# Altium integrated library Silicon Labs Clocks and Oscillators.IntLib: 678 symbols (part 2 of 45)
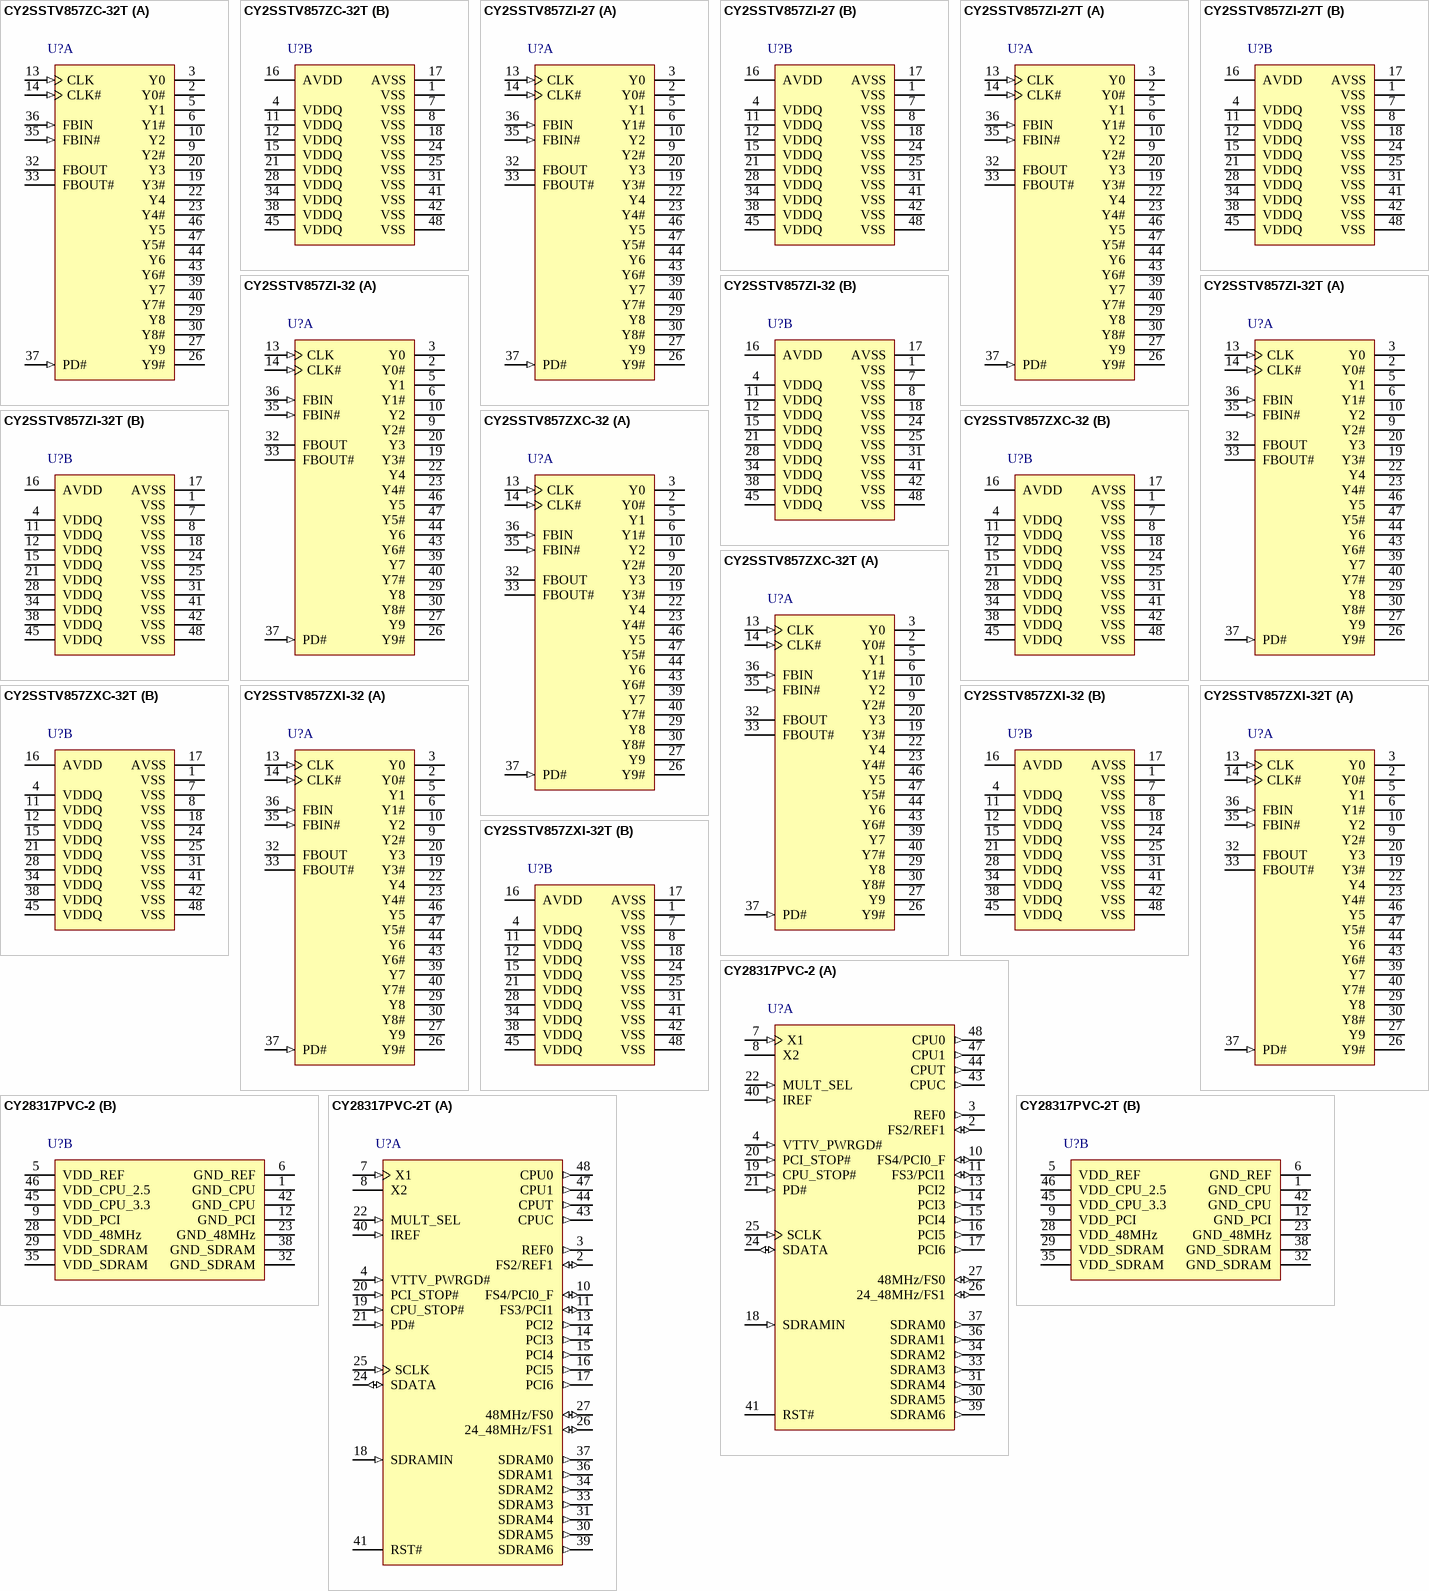
[diagram p45: symbols CY2SSTV857ZC-32T to CY28317PVC-2T]

## CY2SSTV857ZI-27
designator U?
Differential Clock Buffer / Driver DDR333 / PC2700-Compliant, 2.5 V, 20 to 200 MHz Output, -40 to 85 degC, 48-pin SOP; Manufacturer: Silicon Labs; PartNumber: CY2SSTV857ZI-27; Output Format: SSTL2; Reference Inputs: 2; VDD: 2.5 V; Sub-Family: Clock Generators; DatasheetVersion: Rev. *F; PackageReference: TSSOP-48; PackageDescription: 48-Pin Thin Shrink Small-Outline Package, Body 12.5 x 6.1 mm, Pitch 0.5 mm; Supplier 1: Digi-Key; Supplier Part Number 1: CY2SSTV857ZI-27-ND; Supplier 2: Mouser; Supplier Part Number 2: 634-CY2SSTV857ZI-27; Output Frequency (MHz): 20 to 200; Mounting Technology: Surface Mount; Code_JEDEC: MO-153; ComponentLink1Description: Manufacturer URL; ComponentLink1URL: http://www.silabs.com/; ComponentLink2Description: Datasheet; ComponentLink2URL: http://www.silabs.com/Support%20Documents/TechnicalDocs/CY2SSTV857-27.pdf; ComponentLink3Description: Package Specification; ComponentLink3URL: http://www.silabs.com/Support%20Documents/TechnicalDocs/C9530.pdf
footprint SLAB-TSSOP-48_N (SOP, 48-Leads, Body 12.6x6.2mm, Pitch 0.5mm, IPC Medium Density)
footprint SLAB-TSSOP-48_L (SOP, 48-Leads, Body 12.6x6.2mm, Pitch 0.5mm, IPC High Density)
footprint SLAB-TSSOP-48_M (SOP, 48-Leads, Body 12.6x6.2mm, Pitch 0.5mm, IPC Low Density)
part A pins: 2 Y0# (hiz) "Clock Outputs", 3 Y0 (hiz) "Clock Outputs", 5 Y1 (hiz) "Clock Outputs", 6 Y1# (hiz) "Clock Outputs", 9 Y2# (hiz) "Clock Outputs", 10 Y2 (hiz) "Clock Outputs", 13 CLK (in) "Differential Clock Input.", 14 CLK# (in) "Differential Clock Input.", 19 Y3# (hiz) "Clock Outputs", 20 Y3 (hiz) "Clock Outputs", 22 Y4 (hiz) "Clock Outputs", 23 Y4# (hiz) "Clock Outputs", 26 Y9# (hiz) "Clock Outputs", 27 Y9 (hiz) "Clock Outputs", 29 Y8 (hiz) "Clock Outputs", 30 Y8# (hiz) "Clock Outputs", 32 FBOUT (hiz) "Feedback Clock Output", 33 FBOUT# (hiz) "Feedback Clock Output", 35 FBIN# (in) "Feedback Clock Input", 36 FBIN (in) "Feedback Clock Input", 37 PD# (in) "Power Down Input", 39 Y7 (hiz) "Clock Outputs", 40 Y7# (hiz) "Clock Outputs", 43 Y6# (hiz) "Clock Outputs", 44 Y6 (hiz) "Clock Outputs", 46 Y5 (hiz) "Clock Outputs", 47 Y5# (hiz) "Clock Outputs"
part B pins: 1 VSS (power) "Common Ground.", 4 VDDQ (power), 7 VSS (power) "Common Ground.", 8 VSS (power) "Common Ground.", 11 VDDQ (power), 12 VDDQ (power), 15 VDDQ (power), 16 AVDD (power), 17 AVSS (power) "Analog Ground.", 18 VSS (power) "Common Ground.", 21 VDDQ (power), 24 VSS (power) "Common Ground.", 25 VSS (power) "Common Ground.", 28 VDDQ (power), 31 VSS (power) "Common Ground.", 34 VDDQ (power), 38 VDDQ (power), 41 VSS (power) "Common Ground.", 42 VSS (power) "Common Ground.", 45 VDDQ (power), 48 VSS (power) "Common Ground."

## CY2SSTV857ZI-27T
designator U?
Differential Clock Buffer / Driver DDR333 / PC2700-Compliant, 2.5 V, 20 to 200 MHz Output, -40 to 85 degC, 48-pin SOP, Tape and Reel; Manufacturer: Silicon Labs; PartNumber: CY2SSTV857ZI-27T; Output Format: SSTL2; Phase Jitter (RMS): > 1 ps; Reference Inputs: 2; VDD: 2.5 V; Sub-Family: Clock Generators; DatasheetVersion: Rev. *F; PackageReference: TSSOP-48; PackageDescription: 48-Pin Thin Shrink Small-Outline Package, Body 12.5 x 6.1 mm, Pitch 0.5 mm; Supplier 1: Digi-Key; Supplier Part Number 1: CY2SSTV857ZI-27T-ND; Supplier 2: Mouser; Supplier Part Number 2: 634-CY2SSTV857ZI-27T; Output Frequency (MHz): 20 to 200; Packing: Tape and Reel; Mounting Technology: Surface Mount; Code_JEDEC: MO-153; ComponentLink1Description: Manufacturer URL; ComponentLink1URL: http://www.silabs.com/; ComponentLink2Description: Datasheet; ComponentLink2URL: http://www.silabs.com/Support%20Documents/TechnicalDocs/CY2SSTV857-27.pdf; ComponentLink3Description: Package Specification; ComponentLink3URL: http://www.silabs.com/Support%20Documents/TechnicalDocs/C9530.pdf
footprint SLAB-TSSOP-48_N (SOP, 48-Leads, Body 12.6x6.2mm, Pitch 0.5mm, IPC Medium Density)
footprint SLAB-TSSOP-48_L (SOP, 48-Leads, Body 12.6x6.2mm, Pitch 0.5mm, IPC High Density)
footprint SLAB-TSSOP-48_M (SOP, 48-Leads, Body 12.6x6.2mm, Pitch 0.5mm, IPC Low Density)
part A pins: 2 Y0# (hiz) "Clock Outputs", 3 Y0 (hiz) "Clock Outputs", 5 Y1 (hiz) "Clock Outputs", 6 Y1# (hiz) "Clock Outputs", 9 Y2# (hiz) "Clock Outputs", 10 Y2 (hiz) "Clock Outputs", 13 CLK (in) "Differential Clock Input.", 14 CLK# (in) "Differential Clock Input.", 19 Y3# (hiz) "Clock Outputs", 20 Y3 (hiz) "Clock Outputs", 22 Y4 (hiz) "Clock Outputs", 23 Y4# (hiz) "Clock Outputs", 26 Y9# (hiz) "Clock Outputs", 27 Y9 (hiz) "Clock Outputs", 29 Y8 (hiz) "Clock Outputs", 30 Y8# (hiz) "Clock Outputs", 32 FBOUT (hiz) "Feedback Clock Output", 33 FBOUT# (hiz) "Feedback Clock Output", 35 FBIN# (in) "Feedback Clock Input", 36 FBIN (in) "Feedback Clock Input", 37 PD# (in) "Power Down Input", 39 Y7 (hiz) "Clock Outputs", 40 Y7# (hiz) "Clock Outputs", 43 Y6# (hiz) "Clock Outputs", 44 Y6 (hiz) "Clock Outputs", 46 Y5 (hiz) "Clock Outputs", 47 Y5# (hiz) "Clock Outputs"
part B pins: 1 VSS (power) "Common Ground.", 4 VDDQ (power), 7 VSS (power) "Common Ground.", 8 VSS (power) "Common Ground.", 11 VDDQ (power), 12 VDDQ (power), 15 VDDQ (power), 16 AVDD (power), 17 AVSS (power) "Analog Ground.", 18 VSS (power) "Common Ground.", 21 VDDQ (power), 24 VSS (power) "Common Ground.", 25 VSS (power) "Common Ground.", 28 VDDQ (power), 31 VSS (power) "Common Ground.", 34 VDDQ (power), 38 VDDQ (power), 41 VSS (power) "Common Ground.", 42 VSS (power) "Common Ground.", 45 VDDQ (power), 48 VSS (power) "Common Ground."

## CY2SSTV857ZI-32
designator U?
Differential Clock Buffer / Driver DDR400 / PC3200-Compliant, 2.6 V, 20 to 230 MHz Output, -40 to 85 degC, 48-pin SOP; Manufacturer: Silicon Labs; PartNumber: CY2SSTV857ZI-32; Output Format: SSTL2; Reference Inputs: 2; VDD: 2.6 V; Sub-Family: Clock Generators; DatasheetVersion: Rev. *E; PackageReference: TSSOP-48; PackageDescription: 48-Pin Thin Shrink Small-Outline Package, Body 12.5 x 6.1 mm, Pitch 0.5 mm; Output Frequency (MHz): 20 to 230; Mounting Technology: Surface Mount; Code_JEDEC: MO-153; ComponentLink1Description: Manufacturer URL; ComponentLink1URL: http://www.silabs.com/; ComponentLink2Description: Datasheet; ComponentLink2URL: http://www.silabs.com/Support%20Documents/TechnicalDocs/CY2SSTV857-32.pdf; ComponentLink3Description: Package Specification; ComponentLink3URL: http://www.silabs.com/Support%20Documents/TechnicalDocs/C9530.pdf
footprint SLAB-TSSOP-48_N (SOP, 48-Leads, Body 12.6x6.2mm, Pitch 0.5mm, IPC Medium Density)
footprint SLAB-TSSOP-48_L (SOP, 48-Leads, Body 12.6x6.2mm, Pitch 0.5mm, IPC High Density)
footprint SLAB-TSSOP-48_M (SOP, 48-Leads, Body 12.6x6.2mm, Pitch 0.5mm, IPC Low Density)
part A pins: 2 Y0# (hiz) "Clock Outputs", 3 Y0 (hiz) "Clock Outputs", 5 Y1 (hiz) "Clock Outputs", 6 Y1# (hiz) "Clock Outputs", 9 Y2# (hiz) "Clock Outputs", 10 Y2 (hiz) "Clock Outputs", 13 CLK (in) "Differential Clock Input.", 14 CLK# (in) "Differential Clock Input.", 19 Y3# (hiz) "Clock Outputs", 20 Y3 (hiz) "Clock Outputs", 22 Y4 (hiz) "Clock Outputs", 23 Y4# (hiz) "Clock Outputs", 26 Y9# (hiz) "Clock Outputs", 27 Y9 (hiz) "Clock Outputs", 29 Y8 (hiz) "Clock Outputs", 30 Y8# (hiz) "Clock Outputs", 32 FBOUT (hiz) "Feedback Clock Output", 33 FBOUT# (hiz) "Feedback Clock Output", 35 FBIN# (in) "Feedback Clock Input", 36 FBIN (in) "Feedback Clock Input", 37 PD# (in) "Power Down Input", 39 Y7 (hiz) "Clock Outputs", 40 Y7# (hiz) "Clock Outputs", 43 Y6# (hiz) "Clock Outputs", 44 Y6 (hiz) "Clock Outputs", 46 Y5 (hiz) "Clock Outputs", 47 Y5# (hiz) "Clock Outputs"
part B pins: 1 VSS (power) "Common Ground.", 4 VDDQ (power), 7 VSS (power) "Common Ground.", 8 VSS (power) "Common Ground.", 11 VDDQ (power), 12 VDDQ (power), 15 VDDQ (power), 16 AVDD (power), 17 AVSS (power) "Analog Ground.", 18 VSS (power) "Common Ground.", 21 VDDQ (power), 24 VSS (power) "Common Ground.", 25 VSS (power) "Common Ground.", 28 VDDQ (power), 31 VSS (power) "Common Ground.", 34 VDDQ (power), 38 VDDQ (power), 41 VSS (power) "Common Ground.", 42 VSS (power) "Common Ground.", 45 VDDQ (power), 48 VSS (power) "Common Ground."

## CY2SSTV857ZI-32T
designator U?
Differential Clock Buffer / Driver DDR400 / PC3200-Compliant, 2.6 V, 20 to 230 MHz Output, -40 to 85 degC, 48-pin SOP, Tape and Reel; Manufacturer: Silicon Labs; PartNumber: CY2SSTV857ZI-32T; Output Format: SSTL2; Phase Jitter (RMS): > 1 ps; Reference Inputs: 2; VDD: 2.6 V; Sub-Family: Clock Generators; DatasheetVersion: Rev. *E; PackageReference: TSSOP-48; PackageDescription: 48-Pin Thin Shrink Small-Outline Package, Body 12.5 x 6.1 mm, Pitch 0.5 mm; Output Frequency (MHz): 20 to 230; Packing: Tape and Reel; Mounting Technology: Surface Mount; Code_JEDEC: MO-153; ComponentLink1Description: Manufacturer URL; ComponentLink1URL: http://www.silabs.com/; ComponentLink2Description: Datasheet; ComponentLink2URL: http://www.silabs.com/Support%20Documents/TechnicalDocs/CY2SSTV857-32.pdf; ComponentLink3Description: Package Specification; ComponentLink3URL: http://www.silabs.com/Support%20Documents/TechnicalDocs/C9530.pdf
footprint SLAB-TSSOP-48_N (SOP, 48-Leads, Body 12.6x6.2mm, Pitch 0.5mm, IPC Medium Density)
footprint SLAB-TSSOP-48_L (SOP, 48-Leads, Body 12.6x6.2mm, Pitch 0.5mm, IPC High Density)
footprint SLAB-TSSOP-48_M (SOP, 48-Leads, Body 12.6x6.2mm, Pitch 0.5mm, IPC Low Density)
part A pins: 2 Y0# (hiz) "Clock Outputs", 3 Y0 (hiz) "Clock Outputs", 5 Y1 (hiz) "Clock Outputs", 6 Y1# (hiz) "Clock Outputs", 9 Y2# (hiz) "Clock Outputs", 10 Y2 (hiz) "Clock Outputs", 13 CLK (in) "Differential Clock Input.", 14 CLK# (in) "Differential Clock Input.", 19 Y3# (hiz) "Clock Outputs", 20 Y3 (hiz) "Clock Outputs", 22 Y4 (hiz) "Clock Outputs", 23 Y4# (hiz) "Clock Outputs", 26 Y9# (hiz) "Clock Outputs", 27 Y9 (hiz) "Clock Outputs", 29 Y8 (hiz) "Clock Outputs", 30 Y8# (hiz) "Clock Outputs", 32 FBOUT (hiz) "Feedback Clock Output", 33 FBOUT# (hiz) "Feedback Clock Output", 35 FBIN# (in) "Feedback Clock Input", 36 FBIN (in) "Feedback Clock Input", 37 PD# (in) "Power Down Input", 39 Y7 (hiz) "Clock Outputs", 40 Y7# (hiz) "Clock Outputs", 43 Y6# (hiz) "Clock Outputs", 44 Y6 (hiz) "Clock Outputs", 46 Y5 (hiz) "Clock Outputs", 47 Y5# (hiz) "Clock Outputs"
part B pins: 1 VSS (power) "Common Ground.", 4 VDDQ (power), 7 VSS (power) "Common Ground.", 8 VSS (power) "Common Ground.", 11 VDDQ (power), 12 VDDQ (power), 15 VDDQ (power), 16 AVDD (power), 17 AVSS (power) "Analog Ground.", 18 VSS (power) "Common Ground.", 21 VDDQ (power), 24 VSS (power) "Common Ground.", 25 VSS (power) "Common Ground.", 28 VDDQ (power), 31 VSS (power) "Common Ground.", 34 VDDQ (power), 38 VDDQ (power), 41 VSS (power) "Common Ground.", 42 VSS (power) "Common Ground.", 45 VDDQ (power), 48 VSS (power) "Common Ground."

## CY2SSTV857ZXC-32
designator U?
Differential Clock Buffer / Driver DDR400 / PC3200-Compliant, 2.6 V, 20 to 230 MHz Output, 0 to 70 degC, 48-pin SOP; Manufacturer: Silicon Labs; PartNumber: CY2SSTV857ZXC-32; Output Format: SSTL2; Reference Inputs: 2; VDD: 2.6 V; Sub-Family: Clock Generators; DatasheetVersion: Rev. *E; PackageReference: TSSOP-48; PackageDescription: 48-Pin Thin Shrink Small-Outline Package, Body 12.5 x 6.1 mm, Pitch 0.5 mm; Supplier 1: Digi-Key; Supplier Part Number 1: CY2SSTV857ZXC-32-ND; Supplier 2: Mouser; Supplier Part Number 2: 634-CY2SSTV857ZXC-32; Output Frequency (MHz): 20 to 230; Mounting Technology: Surface Mount; Code_JEDEC: MO-153; ComponentLink1Description: Manufacturer URL; ComponentLink1URL: http://www.silabs.com/; ComponentLink2Description: Datasheet; ComponentLink2URL: http://www.silabs.com/Support%20Documents/TechnicalDocs/CY2SSTV857-32.pdf; ComponentLink3Description: Package Specification; ComponentLink3URL: http://www.silabs.com/Support%20Documents/TechnicalDocs/C9530.pdf
footprint SLAB-TSSOP-48_N (SOP, 48-Leads, Body 12.6x6.2mm, Pitch 0.5mm, IPC Medium Density)
footprint SLAB-TSSOP-48_L (SOP, 48-Leads, Body 12.6x6.2mm, Pitch 0.5mm, IPC High Density)
footprint SLAB-TSSOP-48_M (SOP, 48-Leads, Body 12.6x6.2mm, Pitch 0.5mm, IPC Low Density)
part A pins: 2 Y0# (hiz) "Clock Outputs", 3 Y0 (hiz) "Clock Outputs", 5 Y1 (hiz) "Clock Outputs", 6 Y1# (hiz) "Clock Outputs", 9 Y2# (hiz) "Clock Outputs", 10 Y2 (hiz) "Clock Outputs", 13 CLK (in) "Differential Clock Input.", 14 CLK# (in) "Differential Clock Input.", 19 Y3# (hiz) "Clock Outputs", 20 Y3 (hiz) "Clock Outputs", 22 Y4 (hiz) "Clock Outputs", 23 Y4# (hiz) "Clock Outputs", 26 Y9# (hiz) "Clock Outputs", 27 Y9 (hiz) "Clock Outputs", 29 Y8 (hiz) "Clock Outputs", 30 Y8# (hiz) "Clock Outputs", 32 FBOUT (hiz) "Feedback Clock Output", 33 FBOUT# (hiz) "Feedback Clock Output", 35 FBIN# (in) "Feedback Clock Input", 36 FBIN (in) "Feedback Clock Input", 37 PD# (in) "Power Down Input", 39 Y7 (hiz) "Clock Outputs", 40 Y7# (hiz) "Clock Outputs", 43 Y6# (hiz) "Clock Outputs", 44 Y6 (hiz) "Clock Outputs", 46 Y5 (hiz) "Clock Outputs", 47 Y5# (hiz) "Clock Outputs"
part B pins: 1 VSS (power) "Common Ground.", 4 VDDQ (power), 7 VSS (power) "Common Ground.", 8 VSS (power) "Common Ground.", 11 VDDQ (power), 12 VDDQ (power), 15 VDDQ (power), 16 AVDD (power), 17 AVSS (power) "Analog Ground.", 18 VSS (power) "Common Ground.", 21 VDDQ (power), 24 VSS (power) "Common Ground.", 25 VSS (power) "Common Ground.", 28 VDDQ (power), 31 VSS (power) "Common Ground.", 34 VDDQ (power), 38 VDDQ (power), 41 VSS (power) "Common Ground.", 42 VSS (power) "Common Ground.", 45 VDDQ (power), 48 VSS (power) "Common Ground."

## CY2SSTV857ZXC-32T
designator U?
Differential Clock Buffer / Driver DDR400 / PC3200-Compliant, 2.6 V, 20 to 230 MHz Output, 0 to 70 degC, 48-pin SOP, Tape and Reel; Manufacturer: Silicon Labs; PartNumber: CY2SSTV857ZXC-32T; Output Format: SSTL2; Phase Jitter (RMS): > 1 ps; Reference Inputs: 2; VDD: 2.6 V; Sub-Family: Clock Generators; DatasheetVersion: Rev. *E; PackageReference: TSSOP-48; PackageDescription: 48-Pin Thin Shrink Small-Outline Package, Body 12.5 x 6.1 mm, Pitch 0.5 mm; Supplier 1: Digi-Key; Supplier Part Number 1: CY2SSTV857ZXC-32T-ND; Supplier 2: Mouser; Supplier Part Number 2: 634-CY2SSTV857ZXC32T; Output Frequency (MHz): 20 to 230; Packing: Tape and Reel; Mounting Technology: Surface Mount; Code_JEDEC: MO-153; ComponentLink1Description: Manufacturer URL; ComponentLink1URL: http://www.silabs.com/; ComponentLink2Description: Datasheet; ComponentLink2URL: http://www.silabs.com/Support%20Documents/TechnicalDocs/CY2SSTV857-32.pdf; ComponentLink3Description: Package Specification; ComponentLink3URL: http://www.silabs.com/Support%20Documents/TechnicalDocs/C9530.pdf
footprint SLAB-TSSOP-48_N (SOP, 48-Leads, Body 12.6x6.2mm, Pitch 0.5mm, IPC Medium Density)
footprint SLAB-TSSOP-48_L (SOP, 48-Leads, Body 12.6x6.2mm, Pitch 0.5mm, IPC High Density)
footprint SLAB-TSSOP-48_M (SOP, 48-Leads, Body 12.6x6.2mm, Pitch 0.5mm, IPC Low Density)
part A pins: 2 Y0# (hiz) "Clock Outputs", 3 Y0 (hiz) "Clock Outputs", 5 Y1 (hiz) "Clock Outputs", 6 Y1# (hiz) "Clock Outputs", 9 Y2# (hiz) "Clock Outputs", 10 Y2 (hiz) "Clock Outputs", 13 CLK (in) "Differential Clock Input.", 14 CLK# (in) "Differential Clock Input.", 19 Y3# (hiz) "Clock Outputs", 20 Y3 (hiz) "Clock Outputs", 22 Y4 (hiz) "Clock Outputs", 23 Y4# (hiz) "Clock Outputs", 26 Y9# (hiz) "Clock Outputs", 27 Y9 (hiz) "Clock Outputs", 29 Y8 (hiz) "Clock Outputs", 30 Y8# (hiz) "Clock Outputs", 32 FBOUT (hiz) "Feedback Clock Output", 33 FBOUT# (hiz) "Feedback Clock Output", 35 FBIN# (in) "Feedback Clock Input", 36 FBIN (in) "Feedback Clock Input", 37 PD# (in) "Power Down Input", 39 Y7 (hiz) "Clock Outputs", 40 Y7# (hiz) "Clock Outputs", 43 Y6# (hiz) "Clock Outputs", 44 Y6 (hiz) "Clock Outputs", 46 Y5 (hiz) "Clock Outputs", 47 Y5# (hiz) "Clock Outputs"
part B pins: 1 VSS (power) "Common Ground.", 4 VDDQ (power), 7 VSS (power) "Common Ground.", 8 VSS (power) "Common Ground.", 11 VDDQ (power), 12 VDDQ (power), 15 VDDQ (power), 16 AVDD (power), 17 AVSS (power) "Analog Ground.", 18 VSS (power) "Common Ground.", 21 VDDQ (power), 24 VSS (power) "Common Ground.", 25 VSS (power) "Common Ground.", 28 VDDQ (power), 31 VSS (power) "Common Ground.", 34 VDDQ (power), 38 VDDQ (power), 41 VSS (power) "Common Ground.", 42 VSS (power) "Common Ground.", 45 VDDQ (power), 48 VSS (power) "Common Ground."

## CY2SSTV857ZXI-32
designator U?
Differential Clock Buffer / Driver DDR400 / PC3200-Compliant, 2.6 V, 20 to 230 MHz Output, -40 to 85 degC, 48-pin SOP; Manufacturer: Silicon Labs; PartNumber: CY2SSTV857ZXI-32; Output Format: SSTL2; Reference Inputs: 2; VDD: 2.6 V; Sub-Family: Clock Generators; DatasheetVersion: Rev. *E; PackageReference: TSSOP-48; PackageDescription: 48-Pin Thin Shrink Small-Outline Package, Body 12.5 x 6.1 mm, Pitch 0.5 mm; Supplier 1: Digi-Key; Supplier Part Number 1: CY2SSTV857ZXI-32-ND; Supplier 2: Mouser; Supplier Part Number 2: 634-CY2SSTV857ZXI-32; Output Frequency (MHz): 20 to 230; Mounting Technology: Surface Mount; Code_JEDEC: MO-153; ComponentLink1Description: Manufacturer URL; ComponentLink1URL: http://www.silabs.com/; ComponentLink2Description: Datasheet; ComponentLink2URL: http://www.silabs.com/Support%20Documents/TechnicalDocs/CY2SSTV857-32.pdf; ComponentLink3Description: Package Specification; ComponentLink3URL: http://www.silabs.com/Support%20Documents/TechnicalDocs/C9530.pdf
footprint SLAB-TSSOP-48_N (SOP, 48-Leads, Body 12.6x6.2mm, Pitch 0.5mm, IPC Medium Density)
footprint SLAB-TSSOP-48_L (SOP, 48-Leads, Body 12.6x6.2mm, Pitch 0.5mm, IPC High Density)
footprint SLAB-TSSOP-48_M (SOP, 48-Leads, Body 12.6x6.2mm, Pitch 0.5mm, IPC Low Density)
part A pins: 2 Y0# (hiz) "Clock Outputs", 3 Y0 (hiz) "Clock Outputs", 5 Y1 (hiz) "Clock Outputs", 6 Y1# (hiz) "Clock Outputs", 9 Y2# (hiz) "Clock Outputs", 10 Y2 (hiz) "Clock Outputs", 13 CLK (in) "Differential Clock Input.", 14 CLK# (in) "Differential Clock Input.", 19 Y3# (hiz) "Clock Outputs", 20 Y3 (hiz) "Clock Outputs", 22 Y4 (hiz) "Clock Outputs", 23 Y4# (hiz) "Clock Outputs", 26 Y9# (hiz) "Clock Outputs", 27 Y9 (hiz) "Clock Outputs", 29 Y8 (hiz) "Clock Outputs", 30 Y8# (hiz) "Clock Outputs", 32 FBOUT (hiz) "Feedback Clock Output", 33 FBOUT# (hiz) "Feedback Clock Output", 35 FBIN# (in) "Feedback Clock Input", 36 FBIN (in) "Feedback Clock Input", 37 PD# (in) "Power Down Input", 39 Y7 (hiz) "Clock Outputs", 40 Y7# (hiz) "Clock Outputs", 43 Y6# (hiz) "Clock Outputs", 44 Y6 (hiz) "Clock Outputs", 46 Y5 (hiz) "Clock Outputs", 47 Y5# (hiz) "Clock Outputs"
part B pins: 1 VSS (power) "Common Ground.", 4 VDDQ (power), 7 VSS (power) "Common Ground.", 8 VSS (power) "Common Ground.", 11 VDDQ (power), 12 VDDQ (power), 15 VDDQ (power), 16 AVDD (power), 17 AVSS (power) "Analog Ground.", 18 VSS (power) "Common Ground.", 21 VDDQ (power), 24 VSS (power) "Common Ground.", 25 VSS (power) "Common Ground.", 28 VDDQ (power), 31 VSS (power) "Common Ground.", 34 VDDQ (power), 38 VDDQ (power), 41 VSS (power) "Common Ground.", 42 VSS (power) "Common Ground.", 45 VDDQ (power), 48 VSS (power) "Common Ground."

## CY2SSTV857ZXI-32T
designator U?
Differential Clock Buffer / Driver DDR400 / PC3200-Compliant, 2.6 V, 20 to 230 MHz Output, -40 to 85 degC, 48-pin SOP, Tape and Reel; Manufacturer: Silicon Labs; PartNumber: CY2SSTV857ZXI-32T; Output Format: SSTL2; Phase Jitter (RMS): > 1 ps; Reference Inputs: 2; VDD: 2.6 V; Sub-Family: Clock Generators; DatasheetVersion: Rev. *E; PackageReference: TSSOP-48; PackageDescription: 48-Pin Thin Shrink Small-Outline Package, Body 12.5 x 6.1 mm, Pitch 0.5 mm; Supplier 1: Digi-Key; Supplier Part Number 1: CY2SSTV857ZXI-32T-ND; Supplier 2: Mouser; Supplier Part Number 2: 634-CY2SSTV857ZXI32T; Output Frequency (MHz): 20 to 230; Packing: Tape and Reel; Mounting Technology: Surface Mount; Code_JEDEC: MO-153; ComponentLink1Description: Manufacturer URL; ComponentLink1URL: http://www.silabs.com/; ComponentLink2Description: Datasheet; ComponentLink2URL: http://www.silabs.com/Support%20Documents/TechnicalDocs/CY2SSTV857-32.pdf; ComponentLink3Description: Package Specification; ComponentLink3URL: http://www.silabs.com/Support%20Documents/TechnicalDocs/C9530.pdf
footprint SLAB-TSSOP-48_N (SOP, 48-Leads, Body 12.6x6.2mm, Pitch 0.5mm, IPC Medium Density)
footprint SLAB-TSSOP-48_L (SOP, 48-Leads, Body 12.6x6.2mm, Pitch 0.5mm, IPC High Density)
footprint SLAB-TSSOP-48_M (SOP, 48-Leads, Body 12.6x6.2mm, Pitch 0.5mm, IPC Low Density)
part A pins: 2 Y0# (hiz) "Clock Outputs", 3 Y0 (hiz) "Clock Outputs", 5 Y1 (hiz) "Clock Outputs", 6 Y1# (hiz) "Clock Outputs", 9 Y2# (hiz) "Clock Outputs", 10 Y2 (hiz) "Clock Outputs", 13 CLK (in) "Differential Clock Input.", 14 CLK# (in) "Differential Clock Input.", 19 Y3# (hiz) "Clock Outputs", 20 Y3 (hiz) "Clock Outputs", 22 Y4 (hiz) "Clock Outputs", 23 Y4# (hiz) "Clock Outputs", 26 Y9# (hiz) "Clock Outputs", 27 Y9 (hiz) "Clock Outputs", 29 Y8 (hiz) "Clock Outputs", 30 Y8# (hiz) "Clock Outputs", 32 FBOUT (hiz) "Feedback Clock Output", 33 FBOUT# (hiz) "Feedback Clock Output", 35 FBIN# (in) "Feedback Clock Input", 36 FBIN (in) "Feedback Clock Input", 37 PD# (in) "Power Down Input", 39 Y7 (hiz) "Clock Outputs", 40 Y7# (hiz) "Clock Outputs", 43 Y6# (hiz) "Clock Outputs", 44 Y6 (hiz) "Clock Outputs", 46 Y5 (hiz) "Clock Outputs", 47 Y5# (hiz) "Clock Outputs"
part B pins: 1 VSS (power) "Common Ground.", 4 VDDQ (power), 7 VSS (power) "Common Ground.", 8 VSS (power) "Common Ground.", 11 VDDQ (power), 12 VDDQ (power), 15 VDDQ (power), 16 AVDD (power), 17 AVSS (power) "Analog Ground.", 18 VSS (power) "Common Ground.", 21 VDDQ (power), 24 VSS (power) "Common Ground.", 25 VSS (power) "Common Ground.", 28 VDDQ (power), 31 VSS (power) "Common Ground.", 34 VDDQ (power), 38 VDDQ (power), 41 VSS (power) "Common Ground.", 42 VSS (power) "Common Ground.", 45 VDDQ (power), 48 VSS (power) "Common Ground."

## CY28317PVC-2
designator U?
FTG for Mobile VIA(TM) PL133T and PLE133T Chipsets, 3.3 V, 200 MHz Max Output, 0 to 70 degC, 48-pin SOP; Manufacturer: Silicon Labs; PartNumber: CY28317PVC-2; Output Format: LVCMOS; HCSL; Output Frequency (MHz): 14.318; 24; 31 to 39.3; 48; 66 to 200; Reference Inputs: 1; VDD: 3.3 V; Sub-Family: Clock Generators; DatasheetVersion: Rev. *B; PackageReference: SSOP-48; PackageDescription: 48-Pin Shrink Small-Outline Package, Body 15.875 x 7.51 mm, Pitch 0.635 mm; Mounting Technology: Surface Mount; ComponentLink1Description: Manufacturer URL; ComponentLink1URL: http://www.silabs.com/; ComponentLink2Description: Datasheet; ComponentLink2URL: http://www.silabs.com/Support%20Documents/TechnicalDocs/CY28317-2.pdf; ComponentLink3Description: Package Specification; ComponentLink3URL: http://www.silabs.com/Support%20Documents/TechnicalDocs/W255.pdf
footprint SLAB-SSOP-48_N (SOP, 48-Leads, Body 16x7.6mm, Pitch 0.635mm, IPC Medium Density)
footprint SLAB-SSOP-48_L (SOP, 48-Leads, Body 16x7.6mm, Pitch 0.635mm, IPC High Density)
footprint SLAB-SSOP-48_M (SOP, 48-Leads, Body 16x7.6mm, Pitch 0.635mm, IPC Low Density)
part A pins: 2 FS2/REF1 (io), 3 REF0 (out) "Reference Clock Output 0: 3.3V 14.318-MHz output clock.", 4 VTTV_PWRGD# (in) "VTT_PWRGD#: 3.3V LVTTL compatible input that controls the FS0:4 to be latched and enables all outputs. CY28316 will sample the FS0:4 inputs and enable all clock outputs after all the VDD become valid and VTT_PWRGD# is held (See Datasheet)", 7 X1 (in) "Crystal Connection or External Reference Frequency Input: This pin has dual functions. It can be used as an external 14.318-MHz crystal connection or as an external reference frequency input.", 8 X2 "Crystal Connection: An output connection for an external 14.318-MHz crystal. If using an external reference, this pin must be left unconnected.", 10 FS4/PCI0_F (io), 11 FS3/PCI1 (io), 13 PCI2 (out) "PCI Clock Outputs 2 through 6: 3.3V 33-MHz PCI clock outputs. Frequency is set by FS0:4 inputs or through serial data interface.", 14 PCI3 (out) "PCI Clock Outputs 2 through 6: 3.3V 33-MHz PCI clock outputs. Frequency is set by FS0:4 inputs or through serial data interface.", 15 PCI4 (out) "PCI Clock Outputs 2 through 6: 3.3V 33-MHz PCI clock outputs. Frequency is set by FS0:4 inputs or through serial data interface.", 16 PCI5 (out) "PCI Clock Outputs 2 through 6: 3.3V 33-MHz PCI clock outputs. Frequency is set by FS0:4 inputs or through serial data interface.", 17 PCI6 (out) "PCI Clock Outputs 2 through 6: 3.3V 33-MHz PCI clock outputs. Frequency is set by FS0:4 inputs or through serial data interface.", 18 SDRAMIN (in) "SDRAM Buffer Input Pin: Reference input for SDRAM buffer.", 19 CPU_STOP# (in) "CPU Output Control: 3.3V LVTTL compatible input that stops CPU0, CPU1, CPUT, and CPUC when held LOW.", 20 PCI_STOP# (in) "PCI Output Control: 3.3V LVTTL compatible input that stop PCI1:6 when held LOW.", 21 PD# (in) "Power Down Control: LVTTL-compatible input that places the device in power-down mode when held LOW.", 22 MULT_SEL (in) "CPUT and CPUC Output Control: Control the current multiplier for differential CPU output. Set this pin LOW for 1.0V output swing and set this pin HIGH for 0.7V output swing.", 24 SDATA (io) "Data pin for SMBus circuitry.", 25 SCLK (in) "Clock pin for SMBus circuitry.", 26 24_48MHz/FS1 (io), 27 48MHz/FS0 (io), 30 SDRAM5 (out) "SDRAM Outputs: These thirteen dedicated outputs provide copies of the signal provided at the SDRAMIN input.", 31 SDRAM4 (out) "SDRAM Outputs: These thirteen dedicated outputs provide copies of the signal provided at the SDRAMIN input.", 33 SDRAM3 (out) "SDRAM Outputs: These thirteen dedicated outputs provide copies of the signal provided at the SDRAMIN input.", 34 SDRAM2 (out) "SDRAM Outputs: These thirteen dedicated outputs provide copies of the signal provided at the SDRAMIN input.", 36 SDRAM1 (out) "SDRAM Outputs: These thirteen dedicated outputs provide copies of the signal provided at the SDRAMIN input.", 37 SDRAM0 (out) "SDRAM Outputs: These thirteen dedicated outputs provide copies of the signal provided at the SDRAMIN input.", 39 SDRAM6 (out) "SDRAM Outputs: These thirteen dedicated outputs provide copies of the signal provided at the SDRAMIN input.", 40 IREF (in) "Current Reference Input: Current reference for differential CPU output.", 41 RST# (oc) "Reset# Output: Open drain system reset output.", 43 CPUC (out) "Differential CPU Clock Output: Differential CPU clocks for processor.", 44 CPUT (out) "Differential CPU Clock Output: Differential CPU clocks for processor.", 47 CPU1 (out) "CPU Clock Output 0 through 1: CPU clocks for processor and chipset.", 48 CPU0 (out) "CPU Clock Output 0 through 1: CPU clocks for processor and chipset."
part B pins: 1 GND_CPU (power) "Ground Connections: Connect all ground pins to the common system ground plane.", 5 VDD_REF (power) "Power Connection: Power supply for core logic, PLL circuitry, SDRAM outputs, PCI outputs, reference outputs, 48-MHz output, and 24_48-MHz output. Connect to 3.3V supply.", 6 GND_REF (power) "Ground Connections: Connect all ground pins to the common system ground plane.", 9 VDD_PCI (power) "Power Connection: Power supply for core logic, PLL circuitry, SDRAM outputs, PCI outputs, reference outputs, 48-MHz output, and 24_48-MHz output. Connect to 3.3V supply.", 12 GND_PCI (power) "Ground Connections: Connect all ground pins to the common system ground plane.", 23 GND_48MHz (power) "Ground Connections: Connect all ground pins to the common system ground plane.", 28 VDD_48MHz (power) "Power Connection: Power supply for core logic, PLL circuitry, SDRAM outputs, PCI outputs, reference outputs, 48-MHz output, and 24_48-MHz output. Connect to 3.3V supply.", 29 VDD_SDRAM (power) "Power Connection: Power supply for core logic, PLL circuitry, SDRAM outputs, PCI outputs, reference outputs, 48-MHz output, and 24_48-MHz output. Connect to 3.3V supply.", 32 GND_SDRAM (power) "Ground Connections: Connect all ground pins to the common system ground plane.", 35 VDD_SDRAM (power) "Power Connection: Power supply for core logic, PLL circuitry, SDRAM outputs, PCI outputs, reference outputs, 48-MHz output, and 24_48-MHz output. Connect to 3.3V supply.", 38 GND_SDRAM (power) "Ground Connections: Connect all ground pins to the common system ground plane.", 42 GND_CPU (power) "Ground Connections: Connect all ground pins to the common system ground plane.", 45 VDD_CPU_3.3 (power) "Power Connection: Power supply for core logic, PLL circuitry, SDRAM outputs, PCI outputs, reference outputs, 48-MHz output, and 24_48-MHz output. Connect to 3.3V supply.", 46 VDD_CPU_2.5 (power) "Power Connection: Power supply for CPU outputs. Connect to 2.5V supply."

## CY28317PVC-2T
designator U?
FTG for Mobile VIA(TM) PL133T and PLE133T Chipsets, 3.3 V, 200 MHz Max Output, 0 to 70 degC, 48-pin SOP, Tape and Reel; Manufacturer: Silicon Labs; PartNumber: CY28317PVC-2T; Output Format: LVCMOS; HCSL; Output Frequency (MHz): 14.318; 24; 31.5 to 41; 48; 63 to 82; 66 to 200; Phase Jitter (RMS): > 1 ps; Reference Inputs: 1; VDD: 3.3 V; Sub-Family: Clock Generators; DatasheetVersion: Rev. *B; PackageReference: SSOP-48; PackageDescription: 48-Pin Shrink Small-Outline Package, Body 15.875 x 7.51 mm, Pitch 0.635 mm; Packing: Tape and Reel; Mounting Technology: Surface Mount; ComponentLink1Description: Manufacturer URL; ComponentLink1URL: http://www.silabs.com/; ComponentLink2Description: Datasheet; ComponentLink2URL: http://www.silabs.com/Support%20Documents/TechnicalDocs/CY28317-2.pdf; ComponentLink3Description: Package Specification; ComponentLink3URL: http://www.silabs.com/Support%20Documents/TechnicalDocs/W255.pdf
footprint SLAB-SSOP-48_N (SOP, 48-Leads, Body 16x7.6mm, Pitch 0.635mm, IPC Medium Density)
footprint SLAB-SSOP-48_L (SOP, 48-Leads, Body 16x7.6mm, Pitch 0.635mm, IPC High Density)
footprint SLAB-SSOP-48_M (SOP, 48-Leads, Body 16x7.6mm, Pitch 0.635mm, IPC Low Density)
part A pins: 2 FS2/REF1 (io), 3 REF0 (out) "Reference Clock Output 0: 3.3V 14.318-MHz output clock.", 4 VTTV_PWRGD# (in) "VTT_PWRGD#: 3.3V LVTTL compatible input that controls the FS0:4 to be latched and enables all outputs. CY28316 will sample the FS0:4 inputs and enable all clock outputs after all the VDD become valid and VTT_PWRGD# is held (See Datasheet)", 7 X1 (in) "Crystal Connection or External Reference Frequency Input: This pin has dual functions. It can be used as an external 14.318-MHz crystal connection or as an external reference frequency input.", 8 X2 "Crystal Connection: An output connection for an external 14.318-MHz crystal. If using an external reference, this pin must be left unconnected.", 10 FS4/PCI0_F (io), 11 FS3/PCI1 (io), 13 PCI2 (out) "PCI Clock Outputs 2 through 6: 3.3V 33-MHz PCI clock outputs. Frequency is set by FS0:4 inputs or through serial data interface.", 14 PCI3 (out) "PCI Clock Outputs 2 through 6: 3.3V 33-MHz PCI clock outputs. Frequency is set by FS0:4 inputs or through serial data interface.", 15 PCI4 (out) "PCI Clock Outputs 2 through 6: 3.3V 33-MHz PCI clock outputs. Frequency is set by FS0:4 inputs or through serial data interface.", 16 PCI5 (out) "PCI Clock Outputs 2 through 6: 3.3V 33-MHz PCI clock outputs. Frequency is set by FS0:4 inputs or through serial data interface.", 17 PCI6 (out) "PCI Clock Outputs 2 through 6: 3.3V 33-MHz PCI clock outputs. Frequency is set by FS0:4 inputs or through serial data interface.", 18 SDRAMIN (in) "SDRAM Buffer Input Pin: Reference input for SDRAM buffer.", 19 CPU_STOP# (in) "CPU Output Control: 3.3V LVTTL compatible input that stops CPU0, CPU1, CPUT, and CPUC when held LOW.", 20 PCI_STOP# (in) "PCI Output Control: 3.3V LVTTL compatible input that stop PCI1:6 when held LOW.", 21 PD# (in) "Power Down Control: LVTTL-compatible input that places the device in power-down mode when held LOW.", 22 MULT_SEL (in) "CPUT and CPUC Output Control: Control the current multiplier for differential CPU output. Set this pin LOW for 1.0V output swing and set this pin HIGH for 0.7V output swing.", 24 SDATA (io) "Data pin for SMBus circuitry.", 25 SCLK (in) "Clock pin for SMBus circuitry.", 26 24_48MHz/FS1 (io), 27 48MHz/FS0 (io), 30 SDRAM5 (out) "SDRAM Outputs: These thirteen dedicated outputs provide copies of the signal provided at the SDRAMIN input.", 31 SDRAM4 (out) "SDRAM Outputs: These thirteen dedicated outputs provide copies of the signal provided at the SDRAMIN input.", 33 SDRAM3 (out) "SDRAM Outputs: These thirteen dedicated outputs provide copies of the signal provided at the SDRAMIN input.", 34 SDRAM2 (out) "SDRAM Outputs: These thirteen dedicated outputs provide copies of the signal provided at the SDRAMIN input.", 36 SDRAM1 (out) "SDRAM Outputs: These thirteen dedicated outputs provide copies of the signal provided at the SDRAMIN input.", 37 SDRAM0 (out) "SDRAM Outputs: These thirteen dedicated outputs provide copies of the signal provided at the SDRAMIN input.", 39 SDRAM6 (out) "SDRAM Outputs: These thirteen dedicated outputs provide copies of the signal provided at the SDRAMIN input.", 40 IREF (in) "Current Reference Input: Current reference for differential CPU output.", 41 RST# (oc) "Reset# Output: Open drain system reset output.", 43 CPUC (out) "Differential CPU Clock Output: Differential CPU clocks for processor.", 44 CPUT (out) "Differential CPU Clock Output: Differential CPU clocks for processor.", 47 CPU1 (out) "CPU Clock Output 0 through 1: CPU clocks for processor and chipset.", 48 CPU0 (out) "CPU Clock Output 0 through 1: CPU clocks for processor and chipset."
part B pins: 1 GND_CPU (power) "Ground Connections: Connect all ground pins to the common system ground plane.", 5 VDD_REF (power) "Power Connection: Power supply for core logic, PLL circuitry, SDRAM outputs, PCI outputs, reference outputs, 48-MHz output, and 24_48-MHz output. Connect to 3.3V supply.", 6 GND_REF (power) "Ground Connections: Connect all ground pins to the common system ground plane.", 9 VDD_PCI (power) "Power Connection: Power supply for core logic, PLL circuitry, SDRAM outputs, PCI outputs, reference outputs, 48-MHz output, and 24_48-MHz output. Connect to 3.3V supply.", 12 GND_PCI (power) "Ground Connections: Connect all ground pins to the common system ground plane.", 23 GND_48MHz (power) "Ground Connections: Connect all ground pins to the common system ground plane.", 28 VDD_48MHz (power) "Power Connection: Power supply for core logic, PLL circuitry, SDRAM outputs, PCI outputs, reference outputs, 48-MHz output, and 24_48-MHz output. Connect to 3.3V supply.", 29 VDD_SDRAM (power) "Power Connection: Power supply for core logic, PLL circuitry, SDRAM outputs, PCI outputs, reference outputs, 48-MHz output, and 24_48-MHz output. Connect to 3.3V supply.", 32 GND_SDRAM (power) "Ground Connections: Connect all ground pins to the common system ground plane.", 35 VDD_SDRAM (power) "Power Connection: Power supply for core logic, PLL circuitry, SDRAM outputs, PCI outputs, reference outputs, 48-MHz output, and 24_48-MHz output. Connect to 3.3V supply.", 38 GND_SDRAM (power) "Ground Connections: Connect all ground pins to the common system ground plane.", 42 GND_CPU (power) "Ground Connections: Connect all ground pins to the common system ground plane.", 45 VDD_CPU_3.3 (power) "Power Connection: Power supply for core logic, PLL circuitry, SDRAM outputs, PCI outputs, reference outputs, 48-MHz output, and 24_48-MHz output. Connect to 3.3V supply.", 46 VDD_CPU_2.5 (power) "Power Connection: Power supply for CPU outputs. Connect to 2.5V supply."

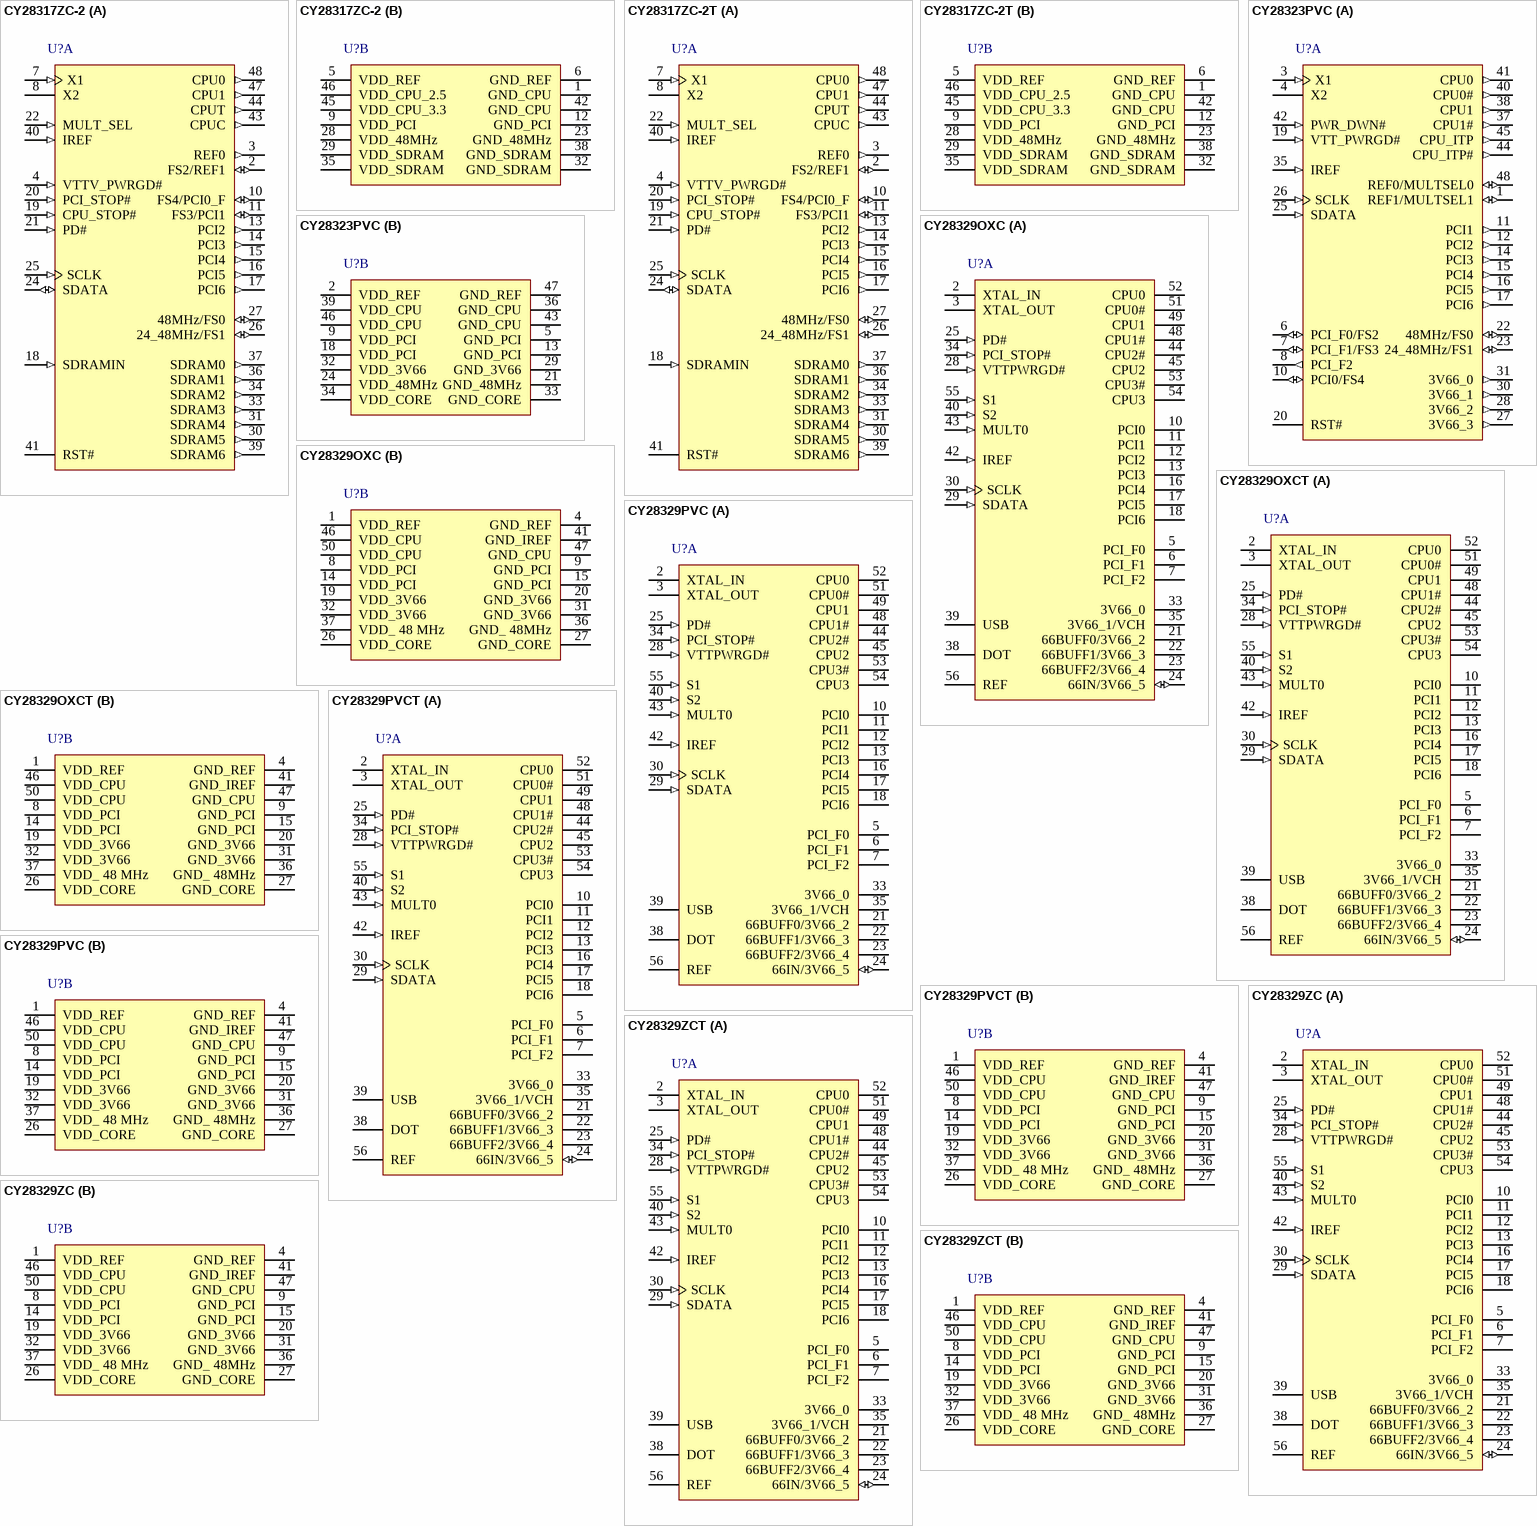
[diagram p2: symbols CY28317ZC-2 to CY28329ZCT]

## CY28317ZC-2
designator U?
FTG for Mobile VIA(TM) PL133T and PLE133T Chipsets, 3.3 V, 200 MHz Max Output, 0 to 70 degC, 48-pin SOP; Manufacturer: Silicon Labs; PartNumber: CY28317ZC-2; Output Format: LVCMOS; HCSL; Output Frequency (MHz): 14.318; 24; 31 to 39.3; 48; 66 to 200; Reference Inputs: 1; VDD: 3.3 V; Sub-Family: Clock Generators; DatasheetVersion: Rev. *B; PackageReference: TSSOP-48; PackageDescription: 48-Pin Thin Shrink Small-Outline Package, Body 12.5 x 6.1 mm, Pitch 0.5 mm; Mounting Technology: Surface Mount; Code_JEDEC: MO-153; ComponentLink1Description: Manufacturer URL; ComponentLink1URL: http://www.silabs.com/; ComponentLink2Description: Datasheet; ComponentLink2URL: http://www.silabs.com/Support%20Documents/TechnicalDocs/CY28317-2.pdf; ComponentLink3Description: Package Specification; ComponentLink3URL: http://www.silabs.com/Support%20Documents/TechnicalDocs/C9530.pdf
footprint SLAB-TSSOP-48_N (SOP, 48-Leads, Body 12.6x6.2mm, Pitch 0.5mm, IPC Medium Density)
footprint SLAB-TSSOP-48_L (SOP, 48-Leads, Body 12.6x6.2mm, Pitch 0.5mm, IPC High Density)
footprint SLAB-TSSOP-48_M (SOP, 48-Leads, Body 12.6x6.2mm, Pitch 0.5mm, IPC Low Density)
part A pins: 2 FS2/REF1 (io), 3 REF0 (out) "Reference Clock Output 0: 3.3V 14.318-MHz output clock.", 4 VTTV_PWRGD# (in) "VTT_PWRGD#: 3.3V LVTTL compatible input that controls the FS0:4 to be latched and enables all outputs. CY28316 will sample the FS0:4 inputs and enable all clock outputs after all the VDD become valid and VTT_PWRGD# is held (See Datasheet)", 7 X1 (in) "Crystal Connection or External Reference Frequency Input: This pin has dual functions. It can be used as an external 14.318-MHz crystal connection or as an external reference frequency input.", 8 X2 "Crystal Connection: An output connection for an external 14.318-MHz crystal. If using an external reference, this pin must be left unconnected.", 10 FS4/PCI0_F (io), 11 FS3/PCI1 (io), 13 PCI2 (out) "PCI Clock Outputs 2 through 6: 3.3V 33-MHz PCI clock outputs. Frequency is set by FS0:4 inputs or through serial data interface.", 14 PCI3 (out) "PCI Clock Outputs 2 through 6: 3.3V 33-MHz PCI clock outputs. Frequency is set by FS0:4 inputs or through serial data interface.", 15 PCI4 (out) "PCI Clock Outputs 2 through 6: 3.3V 33-MHz PCI clock outputs. Frequency is set by FS0:4 inputs or through serial data interface.", 16 PCI5 (out) "PCI Clock Outputs 2 through 6: 3.3V 33-MHz PCI clock outputs. Frequency is set by FS0:4 inputs or through serial data interface.", 17 PCI6 (out) "PCI Clock Outputs 2 through 6: 3.3V 33-MHz PCI clock outputs. Frequency is set by FS0:4 inputs or through serial data interface.", 18 SDRAMIN (in) "SDRAM Buffer Input Pin: Reference input for SDRAM buffer.", 19 CPU_STOP# (in) "CPU Output Control: 3.3V LVTTL compatible input that stops CPU0, CPU1, CPUT, and CPUC when held LOW.", 20 PCI_STOP# (in) "PCI Output Control: 3.3V LVTTL compatible input that stop PCI1:6 when held LOW.", 21 PD# (in) "Power Down Control: LVTTL-compatible input that places the device in power-down mode when held LOW.", 22 MULT_SEL (in) "CPUT and CPUC Output Control: Control the current multiplier for differential CPU output. Set this pin LOW for 1.0V output swing and set this pin HIGH for 0.7V output swing.", 24 SDATA (io) "Data pin for SMBus circuitry.", 25 SCLK (in) "Clock pin for SMBus circuitry.", 26 24_48MHz/FS1 (io), 27 48MHz/FS0 (io), 30 SDRAM5 (out) "SDRAM Outputs: These thirteen dedicated outputs provide copies of the signal provided at the SDRAMIN input.", 31 SDRAM4 (out) "SDRAM Outputs: These thirteen dedicated outputs provide copies of the signal provided at the SDRAMIN input.", 33 SDRAM3 (out) "SDRAM Outputs: These thirteen dedicated outputs provide copies of the signal provided at the SDRAMIN input.", 34 SDRAM2 (out) "SDRAM Outputs: These thirteen dedicated outputs provide copies of the signal provided at the SDRAMIN input.", 36 SDRAM1 (out) "SDRAM Outputs: These thirteen dedicated outputs provide copies of the signal provided at the SDRAMIN input.", 37 SDRAM0 (out) "SDRAM Outputs: These thirteen dedicated outputs provide copies of the signal provided at the SDRAMIN input.", 39 SDRAM6 (out) "SDRAM Outputs: These thirteen dedicated outputs provide copies of the signal provided at the SDRAMIN input.", 40 IREF (in) "Current Reference Input: Current reference for differential CPU output.", 41 RST# (oc) "Reset# Output: Open drain system reset output.", 43 CPUC (out) "Differential CPU Clock Output: Differential CPU clocks for processor.", 44 CPUT (out) "Differential CPU Clock Output: Differential CPU clocks for processor.", 47 CPU1 (out) "CPU Clock Output 0 through 1: CPU clocks for processor and chipset.", 48 CPU0 (out) "CPU Clock Output 0 through 1: CPU clocks for processor and chipset."
part B pins: 1 GND_CPU (power) "Ground Connections: Connect all ground pins to the common system ground plane.", 5 VDD_REF (power) "Power Connection: Power supply for core logic, PLL circuitry, SDRAM outputs, PCI outputs, reference outputs, 48-MHz output, and 24_48-MHz output. Connect to 3.3V supply.", 6 GND_REF (power) "Ground Connections: Connect all ground pins to the common system ground plane.", 9 VDD_PCI (power) "Power Connection: Power supply for core logic, PLL circuitry, SDRAM outputs, PCI outputs, reference outputs, 48-MHz output, and 24_48-MHz output. Connect to 3.3V supply.", 12 GND_PCI (power) "Ground Connections: Connect all ground pins to the common system ground plane.", 23 GND_48MHz (power) "Ground Connections: Connect all ground pins to the common system ground plane.", 28 VDD_48MHz (power) "Power Connection: Power supply for core logic, PLL circuitry, SDRAM outputs, PCI outputs, reference outputs, 48-MHz output, and 24_48-MHz output. Connect to 3.3V supply.", 29 VDD_SDRAM (power) "Power Connection: Power supply for core logic, PLL circuitry, SDRAM outputs, PCI outputs, reference outputs, 48-MHz output, and 24_48-MHz output. Connect to 3.3V supply.", 32 GND_SDRAM (power) "Ground Connections: Connect all ground pins to the common system ground plane.", 35 VDD_SDRAM (power) "Power Connection: Power supply for core logic, PLL circuitry, SDRAM outputs, PCI outputs, reference outputs, 48-MHz output, and 24_48-MHz output. Connect to 3.3V supply.", 38 GND_SDRAM (power) "Ground Connections: Connect all ground pins to the common system ground plane.", 42 GND_CPU (power) "Ground Connections: Connect all ground pins to the common system ground plane.", 45 VDD_CPU_3.3 (power) "Power Connection: Power supply for core logic, PLL circuitry, SDRAM outputs, PCI outputs, reference outputs, 48-MHz output, and 24_48-MHz output. Connect to 3.3V supply.", 46 VDD_CPU_2.5 (power) "Power Connection: Power supply for CPU outputs. Connect to 2.5V supply."

## CY28317ZC-2T
designator U?
FTG for Mobile VIA(TM) PL133T and PLE133T Chipsets, 3.3 V, 200 MHz Max Output, 0 to 70 degC, 48-pin SOP, Tape and Reel; Manufacturer: Silicon Labs; PartNumber: CY28317ZC-2T; Output Format: LVCMOS; HCSL; Output Frequency (MHz): 14.318; 33; 48; 66; 66 to 200; Phase Jitter (RMS): > 1 ps; Reference Inputs: 1; VDD: 3.3 V; Sub-Family: Clock Generators; DatasheetVersion: Rev. *B; PackageReference: TSSOP-48; PackageDescription: 48-Pin Thin Shrink Small-Outline Package, Body 12.5 x 6.1 mm, Pitch 0.5 mm; Packing: Tape and Reel; Mounting Technology: Surface Mount; Code_JEDEC: MO-153; ComponentLink1Description: Manufacturer URL; ComponentLink1URL: http://www.silabs.com/; ComponentLink2Description: Datasheet; ComponentLink2URL: http://www.silabs.com/Support%20Documents/TechnicalDocs/CY28317-2.pdf; ComponentLink3Description: Package Specification; ComponentLink3URL: http://www.silabs.com/Support%20Documents/TechnicalDocs/C9530.pdf
footprint SLAB-TSSOP-48_N (SOP, 48-Leads, Body 12.6x6.2mm, Pitch 0.5mm, IPC Medium Density)
footprint SLAB-TSSOP-48_L (SOP, 48-Leads, Body 12.6x6.2mm, Pitch 0.5mm, IPC High Density)
footprint SLAB-TSSOP-48_M (SOP, 48-Leads, Body 12.6x6.2mm, Pitch 0.5mm, IPC Low Density)
part A pins: 2 FS2/REF1 (io), 3 REF0 (out) "Reference Clock Output 0: 3.3V 14.318-MHz output clock.", 4 VTTV_PWRGD# (in) "VTT_PWRGD#: 3.3V LVTTL compatible input that controls the FS0:4 to be latched and enables all outputs. CY28316 will sample the FS0:4 inputs and enable all clock outputs after all the VDD become valid and VTT_PWRGD# is held (See Datasheet)", 7 X1 (in) "Crystal Connection or External Reference Frequency Input: This pin has dual functions. It can be used as an external 14.318-MHz crystal connection or as an external reference frequency input.", 8 X2 "Crystal Connection: An output connection for an external 14.318-MHz crystal. If using an external reference, this pin must be left unconnected.", 10 FS4/PCI0_F (io), 11 FS3/PCI1 (io), 13 PCI2 (out) "PCI Clock Outputs 2 through 6: 3.3V 33-MHz PCI clock outputs. Frequency is set by FS0:4 inputs or through serial data interface.", 14 PCI3 (out) "PCI Clock Outputs 2 through 6: 3.3V 33-MHz PCI clock outputs. Frequency is set by FS0:4 inputs or through serial data interface.", 15 PCI4 (out) "PCI Clock Outputs 2 through 6: 3.3V 33-MHz PCI clock outputs. Frequency is set by FS0:4 inputs or through serial data interface.", 16 PCI5 (out) "PCI Clock Outputs 2 through 6: 3.3V 33-MHz PCI clock outputs. Frequency is set by FS0:4 inputs or through serial data interface.", 17 PCI6 (out) "PCI Clock Outputs 2 through 6: 3.3V 33-MHz PCI clock outputs. Frequency is set by FS0:4 inputs or through serial data interface.", 18 SDRAMIN (in) "SDRAM Buffer Input Pin: Reference input for SDRAM buffer.", 19 CPU_STOP# (in) "CPU Output Control: 3.3V LVTTL compatible input that stops CPU0, CPU1, CPUT, and CPUC when held LOW.", 20 PCI_STOP# (in) "PCI Output Control: 3.3V LVTTL compatible input that stop PCI1:6 when held LOW.", 21 PD# (in) "Power Down Control: LVTTL-compatible input that places the device in power-down mode when held LOW.", 22 MULT_SEL (in) "CPUT and CPUC Output Control: Control the current multiplier for differential CPU output. Set this pin LOW for 1.0V output swing and set this pin HIGH for 0.7V output swing.", 24 SDATA (io) "Data pin for SMBus circuitry.", 25 SCLK (in) "Clock pin for SMBus circuitry.", 26 24_48MHz/FS1 (io), 27 48MHz/FS0 (io), 30 SDRAM5 (out) "SDRAM Outputs: These thirteen dedicated outputs provide copies of the signal provided at the SDRAMIN input.", 31 SDRAM4 (out) "SDRAM Outputs: These thirteen dedicated outputs provide copies of the signal provided at the SDRAMIN input.", 33 SDRAM3 (out) "SDRAM Outputs: These thirteen dedicated outputs provide copies of the signal provided at the SDRAMIN input.", 34 SDRAM2 (out) "SDRAM Outputs: These thirteen dedicated outputs provide copies of the signal provided at the SDRAMIN input.", 36 SDRAM1 (out) "SDRAM Outputs: These thirteen dedicated outputs provide copies of the signal provided at the SDRAMIN input.", 37 SDRAM0 (out) "SDRAM Outputs: These thirteen dedicated outputs provide copies of the signal provided at the SDRAMIN input.", 39 SDRAM6 (out) "SDRAM Outputs: These thirteen dedicated outputs provide copies of the signal provided at the SDRAMIN input.", 40 IREF (in) "Current Reference Input: Current reference for differential CPU output.", 41 RST# (oc) "Reset# Output: Open drain system reset output.", 43 CPUC (out) "Differential CPU Clock Output: Differential CPU clocks for processor.", 44 CPUT (out) "Differential CPU Clock Output: Differential CPU clocks for processor.", 47 CPU1 (out) "CPU Clock Output 0 through 1: CPU clocks for processor and chipset.", 48 CPU0 (out) "CPU Clock Output 0 through 1: CPU clocks for processor and chipset."
part B pins: 1 GND_CPU (power) "Ground Connections: Connect all ground pins to the common system ground plane.", 5 VDD_REF (power) "Power Connection: Power supply for core logic, PLL circuitry, SDRAM outputs, PCI outputs, reference outputs, 48-MHz output, and 24_48-MHz output. Connect to 3.3V supply.", 6 GND_REF (power) "Ground Connections: Connect all ground pins to the common system ground plane.", 9 VDD_PCI (power) "Power Connection: Power supply for core logic, PLL circuitry, SDRAM outputs, PCI outputs, reference outputs, 48-MHz output, and 24_48-MHz output. Connect to 3.3V supply.", 12 GND_PCI (power) "Ground Connections: Connect all ground pins to the common system ground plane.", 23 GND_48MHz (power) "Ground Connections: Connect all ground pins to the common system ground plane.", 28 VDD_48MHz (power) "Power Connection: Power supply for core logic, PLL circuitry, SDRAM outputs, PCI outputs, reference outputs, 48-MHz output, and 24_48-MHz output. Connect to 3.3V supply.", 29 VDD_SDRAM (power) "Power Connection: Power supply for core logic, PLL circuitry, SDRAM outputs, PCI outputs, reference outputs, 48-MHz output, and 24_48-MHz output. Connect to 3.3V supply.", 32 GND_SDRAM (power) "Ground Connections: Connect all ground pins to the common system ground plane.", 35 VDD_SDRAM (power) "Power Connection: Power supply for core logic, PLL circuitry, SDRAM outputs, PCI outputs, reference outputs, 48-MHz output, and 24_48-MHz output. Connect to 3.3V supply.", 38 GND_SDRAM (power) "Ground Connections: Connect all ground pins to the common system ground plane.", 42 GND_CPU (power) "Ground Connections: Connect all ground pins to the common system ground plane.", 45 VDD_CPU_3.3 (power) "Power Connection: Power supply for core logic, PLL circuitry, SDRAM outputs, PCI outputs, reference outputs, 48-MHz output, and 24_48-MHz output. Connect to 3.3V supply.", 46 VDD_CPU_2.5 (power) "Power Connection: Power supply for CPU outputs. Connect to 2.5V supply."